# EAGLE library part HDR_2X06 (library sj_connectors)
2x06 - 0.1" Pin Header
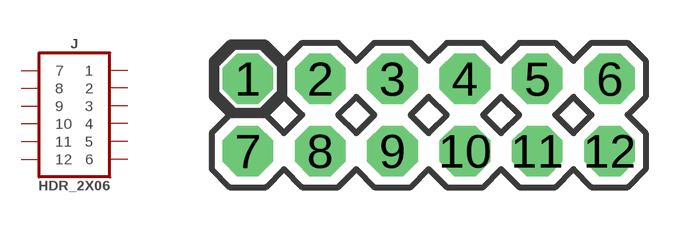
[diagram p11: symbol with the pads of HDR_2X06; footprint HDR_2X06]

Designator prefix J

## HDR_2X06  [HDR_2X06]
1  1  pas
2  2  pas
3  3  pas
4  4  pas
5  5  pas
6  6  pas
7  7  pas
8  8  pas
9  9  pas
10  10  pas
11  11  pas
12  12  pas

## Footprint HDR_2X06 (pad centres in mm)
2x06 - 0.1" Pin Header Package
drill 0.838 pad 1.778 octagon: 1 0,0; 2 2.54,0; 3 5.08,0; 4 7.62,0; 5 10.16,0; 6 12.7,0; 7 0,-2.54; 8 2.54,-2.54; 9 5.08,-2.54; 10 7.62,-2.54; 11 10.16,-2.54; 12 12.7,-2.54